# Altium footprint library PcbLib.PcbLib: 7 footprints
Each footprint in its own frame and in the unit in brackets; x right, y up, seen from the top. Pads: shape width x height; smd on the part's side, far side on the other; paste and mask are expansions set on the pad; w line width, h text height; cw(c..) or ccw(c..) is an arc to the next point about the centre after c.
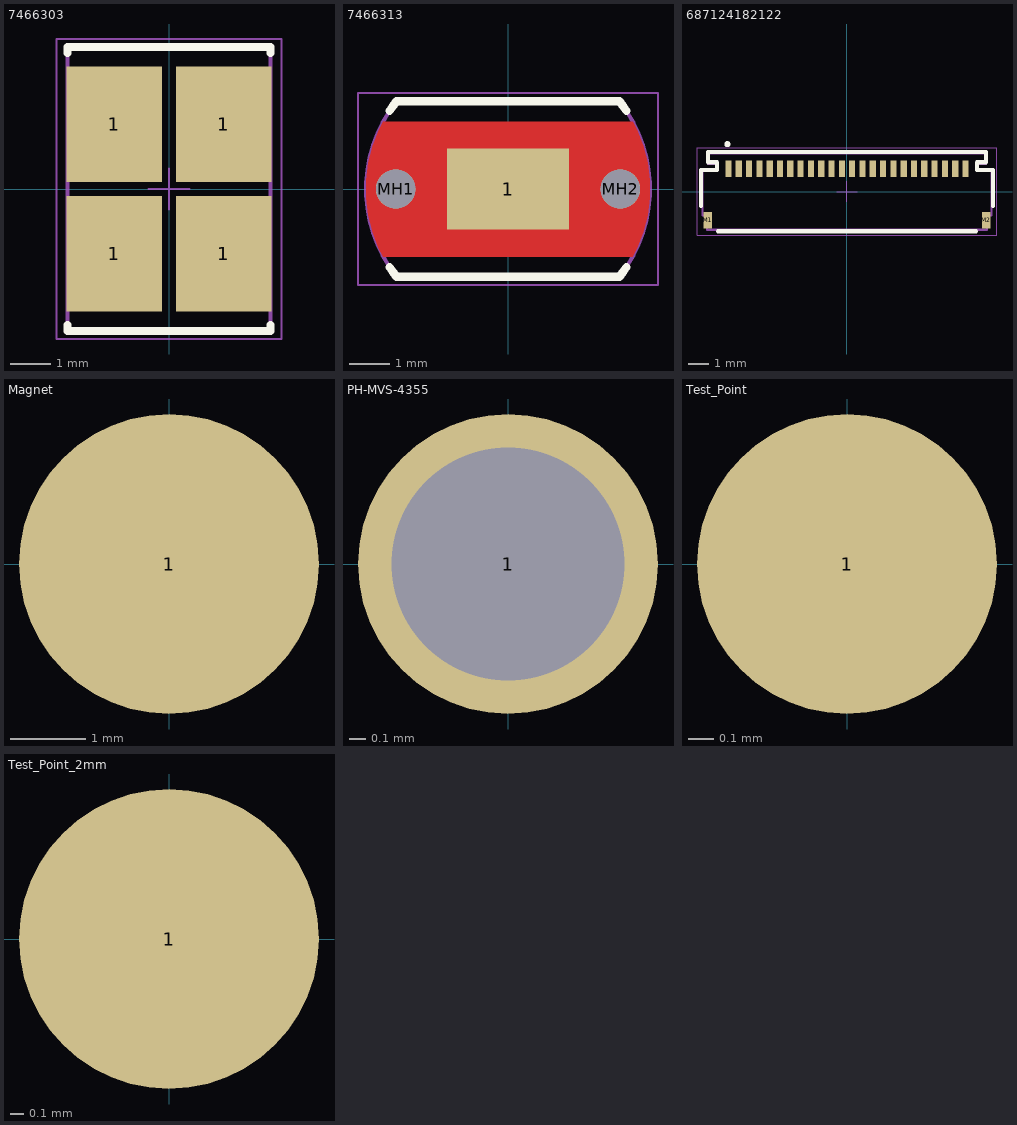
[diagram p0: the footprints below, top view; thin cyan lines are the x and y axes]

## 7466303 [mm] "SMD Terminal Right Angled, Thread M3, Length 7mm"
height 5
pads (4):
  rect 2.35x2.85 smd paste-403.566: 1(-1.35,-1.6) 1(-1.35,1.6) 1(1.35,-1.6) 1(1.35,1.6)
Top Overlay:
  lines w0.2: -2.5,-3.35 -2.5,-3.5 2.5,-3.5 2.5,-3.35 ; -2.5,3.35 -2.5,3.5 2.5,3.5 2.5,3.35
Top Paste:
  region: -2.475,-2.975 -2.475,-0.225 -0.225,-0.225 -0.225,-2.975
  region: -2.475,0.225 -2.475,2.975 -0.225,2.975 -0.225,0.225
  region: 0.225,-2.975 0.225,-0.225 2.475,-0.225 2.475,-2.975
  region: 0.225,0.225 0.225,2.975 2.475,2.975 2.475,0.225
Top Designator:
  text ".Designator" at -7.498,-0.5 h1.5
Top Component Outline:
  lines w0.1: -2.5,-3.5 -2.5,3.5 2.5,3.5 2.5,-3.5 -2.5,-3.5
Top 3D Body:
  lines w0.1: -2.5,-3.5 2.5,-3.5 2.5,3.5 -2.5,3.5 -2.5,-3.5
Top Courtyard:
  lines w0.05: -0.5,0 0.5,0 ; 0,-0.5 0,0.5 ; -2.775,-3.7 2.775,-3.7 2.775,3.7 -2.775,3.7 -2.775,-3.7
3D body "7466303.stp": height 5, standoff 0, extent -2.5,-3.5 2.5,3.5

## 7466313 [mm] "SMD Terminal Right Angled with Pins, Thread M3, Length 5.5mm"
height 7
pads (3):
  rect 3x2 smd paste-403.566 mask-403.566: 1(0,0)
  round 0.97 hole 0.97 unplated paste-2539.97: MH1(-2.77,0) MH2(2.77,0)
Top Layer:
  region: -3.079,-1.665 3.079,-1.665 3.182,-1.474 3.34,-1.069 3.446,-0.648 3.5,-0.217 3.5,0.217 3.446,0.648 3.34,1.069 3.182,1.474 3.079,1.665 -3.079,1.665 -3.182,1.474 -3.34,1.069 -3.446,0.648 -3.5,0.217 -3.5,-0.217 -3.447,-0.648 -3.34,-1.069 -3.182,-1.474
Top Overlay:
  lines w0.2: -2.92,-1.93 ccw(c0,0) -2.75,-2.165 2.75,-2.165 ccw(c0,0) 2.92,-1.93 ; -2.92,1.93 cw(c0,0) -2.75,2.165 2.75,2.165 cw(c0,0) 2.92,1.93
Top Paste:
  region: 3.354,-1 2,-1 2,-0.5 -2,-0.5 -2,-1 -3.354,-1 -3.328,-1.086 -3.268,-1.256 -3.199,-1.423 -3.122,-1.586 -3.079,-1.665 3.079,-1.665 3.122,-1.585 3.199,-1.423 3.268,-1.256 3.328,-1.086
  region: -3.354,1 -2,1 -2,0.5 2,0.5 2,1 3.354,1 3.328,1.086 3.268,1.256 3.199,1.423 3.122,1.586 3.079,1.665 -3.079,1.665 -3.122,1.585 -3.199,1.423 -3.268,1.256 -3.328,1.086
Top Designator:
  text ".Designator" at -7.498,-0.5 h1.5
Top Component Outline:
  lines w0.1: -2.75,-2.165 cw(c0,0) -2.75,2.165 2.75,2.165 cw(c0,0) 2.75,-2.165 -2.75,-2.165
Top 3D Body:
  lines w0.1: -2.75,-2.165 cw(c0,0) -2.75,2.165 2.75,2.165 cw(c0,0) 2.75,-2.165 -2.75,-2.165
Top Courtyard:
  lines w0.05: -0.5,0 0.5,0 ; 0,-0.5 0,0.5 ; -3.7,-2.365 3.7,-2.365 3.7,2.365 -3.7,2.365 -3.7,-2.365
3D body "7466313.stp": height 7, standoff -1, extent -3.5,-2.165 3.5,2.165

## 687124182122 [mm] "ZIF Connectors, Horizontal, Dual Contact Back Locking, pitch 0.5mm, 24p"
height 1.06
pads (26):
  rect 0.3x0.8 smd: 1(-5.75,1.1) 2(-5.25,1.1) 3(-4.75,1.1) 4(-4.25,1.1) 5(-3.75,1.1) 6(-3.25,1.1) 7(-2.75,1.1) 8(-2.25,1.1) 9(-1.75,1.1) 10(-1.25,1.1) 11(-0.75,1.1) 12(-0.25,1.1) 13(0.25,1.1) 14(0.75,1.1) 15(1.25,1.1) 16(1.75,1.1) 17(2.25,1.1) 18(2.75,1.1) 19(3.25,1.1) 20(3.75,1.1) 21(4.25,1.1) 22(4.75,1.1) 23(5.25,1.1) 24(5.75,1.1)
  rect 0.4x0.8 smd: M1(-6.75,-1.4) M2(6.75,-1.4)
Top Overlay:
  circle w0.15: c-5.8,2.3 r0.075
  lines w0.2: -7.075,-0.7 -7.075,1.05 -6.3,1.05 -6.3,1.425 -6.75,1.425 -6.75,1.925 6.75,1.925 6.75,1.425 6.3,1.425 6.3,1.05 7.075,1.05 7.075,-0.7 ; -6.25,-1.925 6.25,-1.925
Top Designator:
  text ".Designator" at -7.498,-0.5 h1.5
Top Component Outline:
  lines w0.1: -7,-1.15 -7,1.05 -6.3,1.05 -6.3,1.35 -6.75,1.35 -6.75,1.85 6.75,1.85 6.75,1.35 6.3,1.35 6.3,1.05 7,1.05 7,-1.15 6.8,-1.15 6.8,-1.85 -6.8,-1.85 -6.8,-1.15 -7,-1.15
Top 3D Body:
  lines w0.1: -7,-1.15 -6.8,-1.15 -6.8,-1.85 6.8,-1.85 6.8,-1.15 7,-1.15 7,1.05 6.3,1.05 6.3,1.35 6.75,1.35 6.75,1.85 -6.75,1.85 -6.75,1.35 -6.3,1.35 -6.3,1.05 -7,1.05 -7,-1.15
Top Courtyard:
  lines w0.05: -0.5,0 0.5,0 ; 0,-0.5 0,0.5 ; -7.275,-2.125 -7.275,2.125 7.275,2.125 7.275,-2.125 -7.275,-2.125
3D body "687124182122.stp": height 0.98, standoff -0.01, extent -7,-1.85 7,1.85

## Magnet [mm] "Magnet 3x2mm"
height 2
pads (1):
  round 4 smd: 1(0,0)
3D body: height 2, standoff 0, extent -1.5,-1.5 1.5,1.5

## PH-MVS-4355 [mm]
pads (1):
  round 1.8 hole 1.4: 1(0,0)
3D body "ph-mvs-xxxx-model.step": height 7, standoff -4, extent -0.993,-1 0.993,1

## Test_Point [mm]
pads (1):
  round 1.2 smd: 1(0,0)

## Test_Point_2mm [mm]
pads (1):
  round 2.2 smd: 1(0,0)